# Altium footprint library SOIC127P1030X265-16N.PCBLIB: 1 footprints
Each footprint in its own frame and in the unit in brackets; x right, y up, seen from the top. Pads: shape width x height; smd on the part's side, far side on the other; paste and mask are expansions set on the pad; w line width, h text height; cw(c..) or ccw(c..) is an arc to the next point about the centre after c.
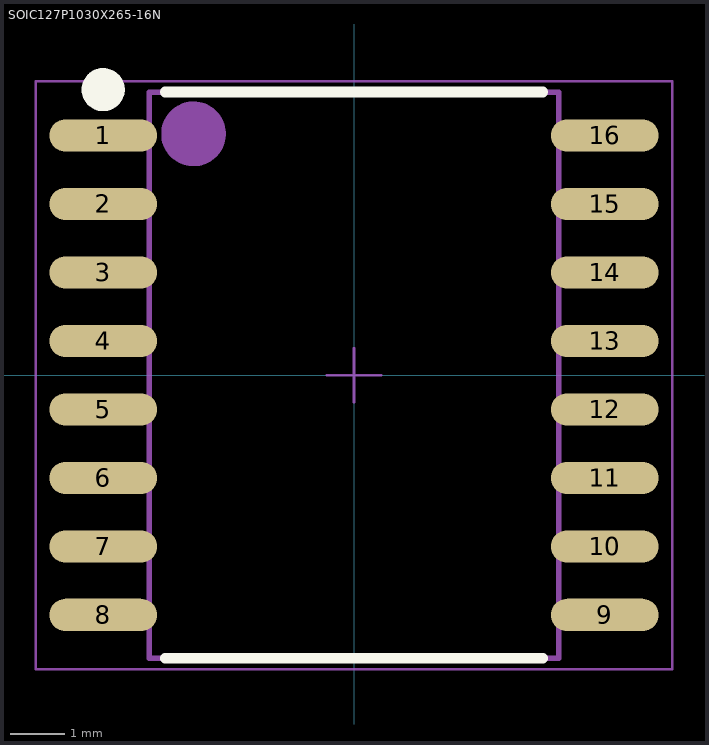
[diagram p0: the footprint, top view; thin cyan lines are the x and y axes]

## SOIC127P1030X265-16N [mm]
height 2.65
pads (16):
  oval 2x0.6 smd: 1(-4.65,4.445) 2(-4.65,3.175) 3(-4.65,1.905) 4(-4.65,0.635) 5(-4.65,-0.635) 6(-4.65,-1.905) 7(-4.65,-3.175) 8(-4.65,-4.445) 9(4.65,-4.445) 10(4.65,-3.175) 11(4.65,-1.905) 12(4.65,-0.635) 13(4.65,0.635) 14(4.65,1.905) 15(4.65,3.175) 16(4.65,4.445)
Top Overlay:
  circle w0.4: c-4.65,5.295 r0.2
  lines w0.2: -3.5,-5.25 3.5,-5.25 ; -3.5,5.25 3.5,5.25
Top Assembly:
  circle w0.6: c-2.975,4.475 r0.3
  lines w0.1: -3.8,-5.25 -3.8,5.25 3.8,5.25 3.8,-5.25 -3.8,-5.25
Top Courtyard:
  lines w0.05: -5.9,-5.45 -5.9,5.45 5.9,5.45 5.9,-5.45 -5.9,-5.45
Top Designator:
  text ".Designator" at -5.4,6 h1
Top Component Center:
  lines w0.05: -0.5,0 0.5,0 ; 0,-0.5 0,0.5
3D body "User Library-SOIC16_Wide_JEDEC_MS-013AA.STEP": height 2.64, standoff -0.01, extent -5.315,-5.25 5.315,5.25